# Altium schematic symbol library Chokes.SchLib: 3 symbols
Pins are listed as number, name and electrical type; pins without a type are passive.

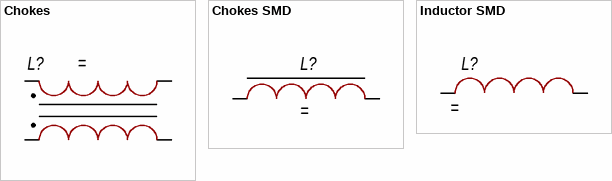
[diagram p0: symbols Chokes to Inductor SMD]

## Chokes
designator L?
Model: *; Manufcacture: *; HelpURL: *; Case: *; Value: *
footprint PLT5BPH1015R6SN
pins: 1, 2, 3, 4

## Chokes SMD
designator L?
Model: *; Manufcacture: *; HelpURL: *; Case: *; Value: *
footprint CDRH127
footprint MBH6045C-470MA
footprint SDR0604
footprint LQH55DNxxM03
footprint LQH31xx03
footprint LQH32xx53
footprint LQH32xx33
footprint LQH32xx23
footprint LQH32xxCL
footprint smd7850
pins: 1, 2

## Inductor SMD
designator L?
Model: *; Manufcacture: *; HelpURL: *; Case: *; Value: *
footprint AIMC-0402
footprint ATFC-0402
footprint LQG15WHxx02D
footprint AIMC-0603
footprint ATFC-0603
footprint AIMC-0805
footprint ASMPH-0805
footprint AIML-1206
pins: 1, 2